# Altium footprint library INF-PG-TO263-7-1L.PcbLib: 1 footprints
Each footprint in its own frame and in the unit in brackets; x right, y up, seen from the top. Pads: shape width x height; smd on the part's side, far side on the other; paste and mask are expansions set on the pad; w line width, h text height; cw(c..) or ccw(c..) is an arc to the next point about the centre after c.
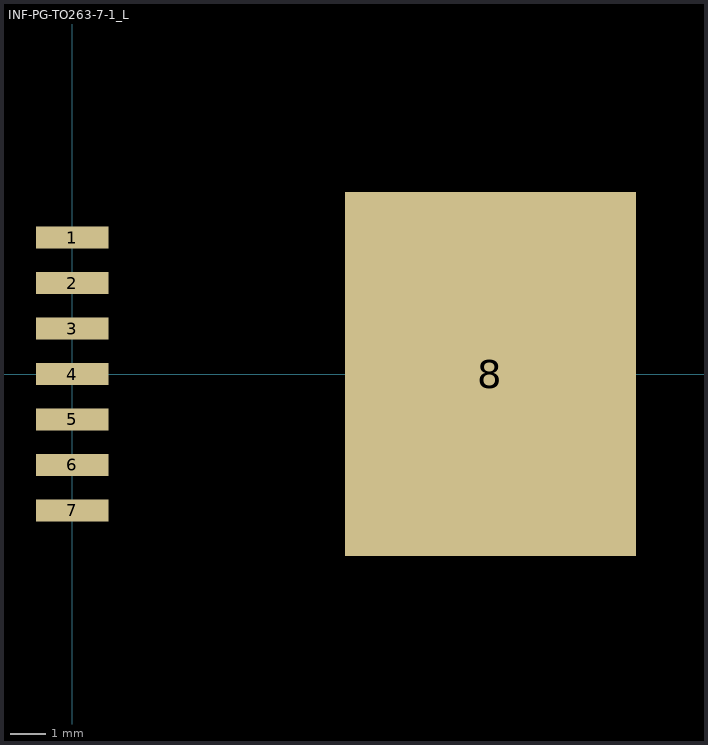
[diagram p0: the footprint, top view; thin cyan lines are the x and y axes]

## INF-PG-TO263-7-1_L [mil] "DPAK, 8-Leads, Body 10x9.25mm, Pitch 1.27mm, IPC High Density"
height 173.23
pads (8):
  rect 80x24 smd: 1(0,150) 2(0,100) 3(0,50) 4(0,0) 5(0,-50) 6(0,-100) 7(0,-150)
  rect 320x400 smd: 8(460,0)